# EAGLE library part MC14028BCP (library User-Submitted)
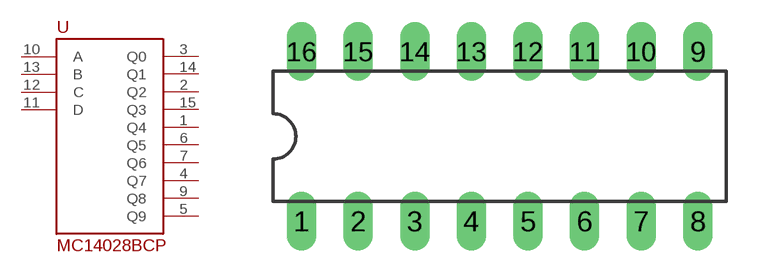
[diagram p28: symbol with the pads of DIL16; footprint DIL16]

Designator prefix -

## MC14028BCP  [DIL16]
1  Q4
2  Q2
3  Q0
4  Q7
5  Q9
6  Q5
7  Q6
9  Q8
10  A
11  D
12  C
13  B
14  Q1
15  Q3

## Footprint DIL16 (pad centres in mm)
Dual In Line Package
drill 0.813 long: 1 -8.89,-3.81; 2 -6.35,-3.81; 3 -3.81,-3.81; 4 -1.27,-3.81; 5 1.27,-3.81; 6 3.81,-3.81; 7 6.35,-3.81; 8 8.89,-3.81; 9 8.89,3.81; 10 6.35,3.81; 11 3.81,3.81; 12 1.27,3.81; 13 -1.27,3.81; 14 -3.81,3.81; 15 -6.35,3.81; 16 -8.89,3.81